# Altium footprint library con-weidmueller-sl35.PCBLIB: 184 footprints (part 5 of 12)
Each footprint in its own frame and in the unit in brackets; x right, y up, seen from the top. Pads: shape width x height; smd on the part's side, far side on the other; paste and mask are expansions set on the pad; w line width, h text height; cw(c..) or ccw(c..) is an arc to the next point about the centre after c.
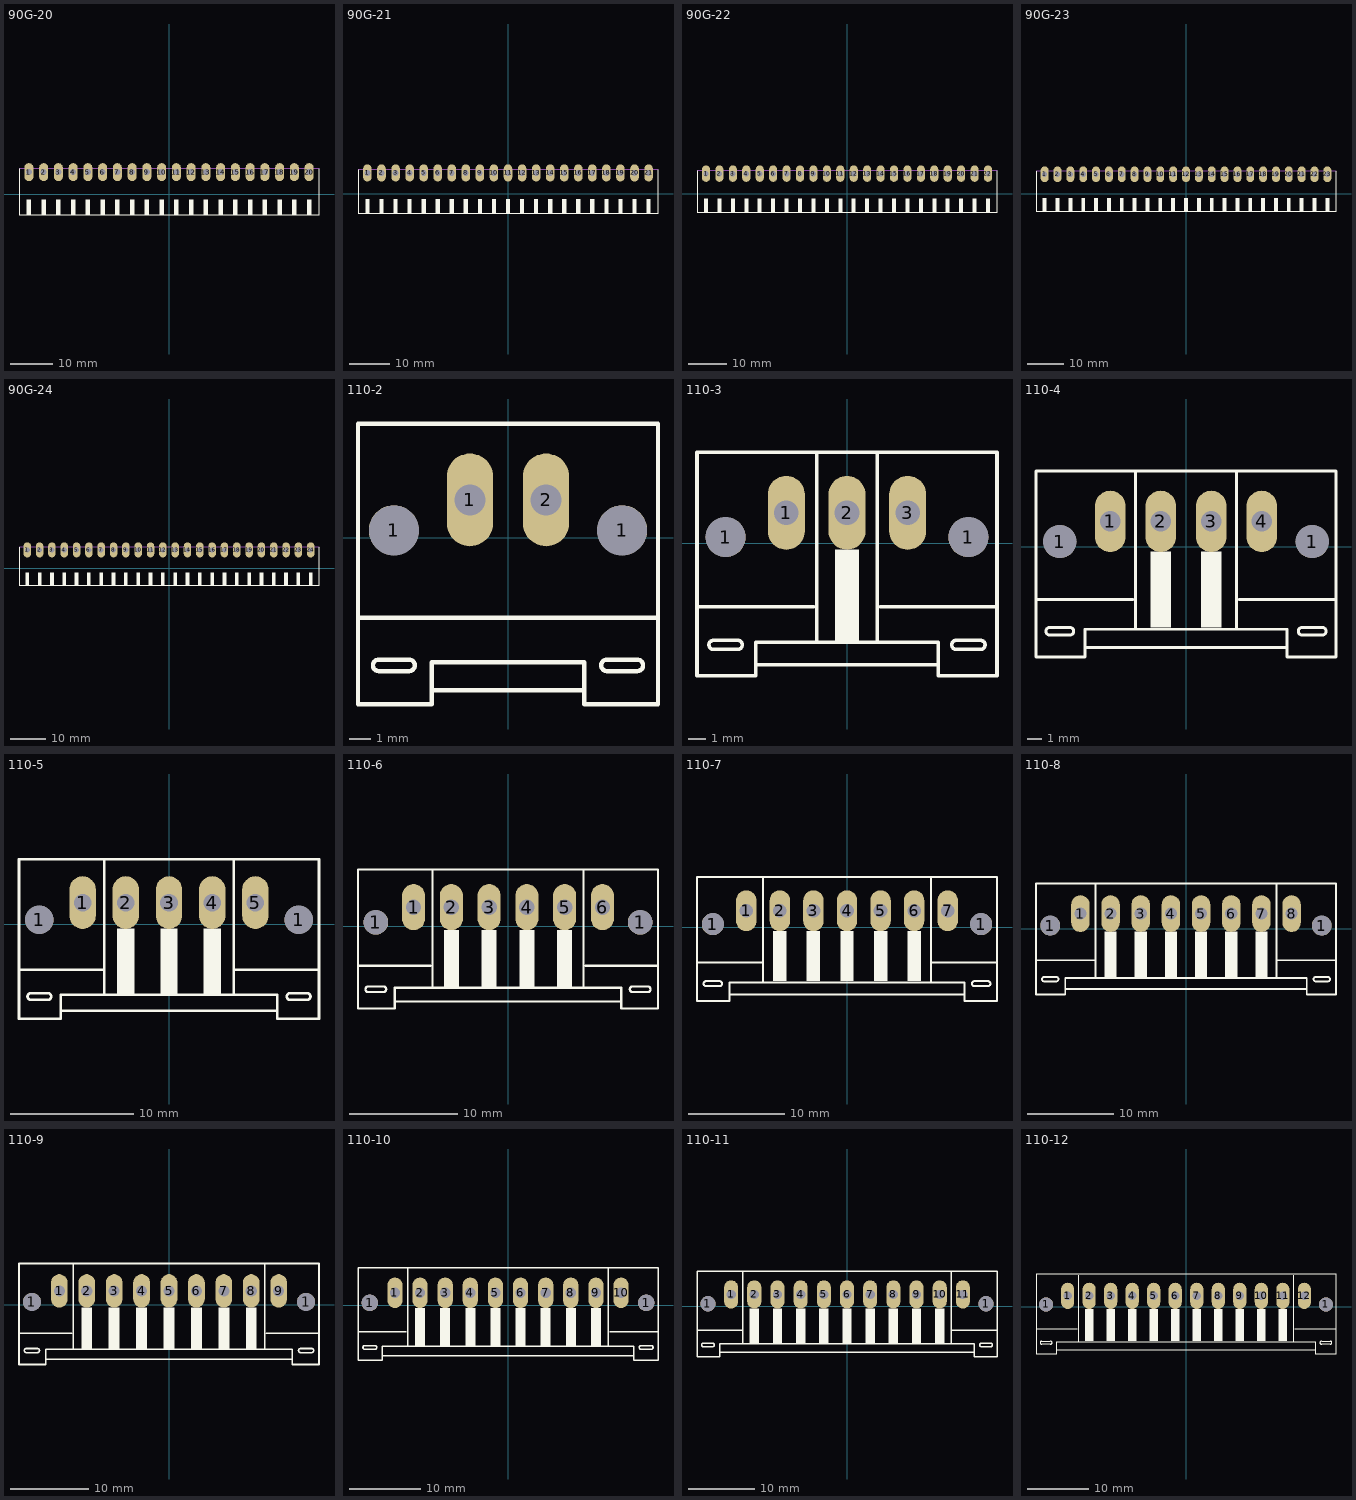
[diagram p4: the footprints below, top view; thin cyan lines are the x and y axes]

## 90G-20 [mil]
pads (20):
  oval 84x168 hole 56: 1(-1309.06,206.69) 2(-1171.26,206.69) 3(-1033.46,206.69) 4(-895.67,206.69) 5(-757.87,206.69) 6(-620.08,206.69) 7(-482.28,206.69) 8(-344.49,206.69) 9(-206.69,206.69) 10(-68.9,206.69) 11(68.9,206.69) 12(206.69,206.69) 13(344.49,206.69) 14(482.28,206.69) 15(620.08,206.69) 16(757.87,206.69) 17(895.67,206.69) 18(1033.46,206.69) 19(1171.26,206.69) 20(1309.06,206.69)
Top Overlay:
  rectangle: -1329.72,-192.91 -1288.39,-48.23
  rectangle: -1191.93,-192.91 -1150.59,-48.23
  rectangle: -1054.13,-192.91 -1012.8,-48.23
  rectangle: -916.34,-192.91 -875,-48.23
  rectangle: -778.54,-192.91 -737.2,-48.23
  rectangle: -640.75,-192.91 -599.41,-48.23
  rectangle: -502.95,-192.91 -461.61,-48.23
  rectangle: -365.16,-192.91 -323.82,-48.23
  rectangle: -227.36,-192.91 -186.02,-48.23
  rectangle: -89.57,-192.91 -48.23,-48.23
  rectangle: 48.23,-192.91 89.57,-48.23
  rectangle: 186.02,-192.91 227.36,-48.23
  rectangle: 323.82,-192.91 365.16,-48.23
  rectangle: 461.61,-192.91 502.95,-48.23
  rectangle: 599.41,-192.91 640.75,-48.23
  rectangle: 737.2,-192.91 778.54,-48.23
  rectangle: 875,-192.91 916.34,-48.23
  rectangle: 1012.8,-192.91 1054.13,-48.23
  rectangle: 1150.59,-192.91 1191.93,-48.23
  rectangle: 1288.39,-192.91 1329.72,-48.23
  lines w8: -1401.57,238.19 -1401.57,-190.94 1401.57,-190.94 1401.57,238.19
Mechanical 16:
  lines w8: -1401.57,238.19 1401.57,238.19

## 90G-21 [mil]
pads (21):
  oval 84x168 hole 56: 1(-1377.95,206.69) 2(-1240.16,206.69) 3(-1102.36,206.69) 4(-964.57,206.69) 5(-826.77,206.69) 6(-688.98,206.69) 7(-551.18,206.69) 8(-413.39,206.69) 9(-275.59,206.69) 10(-137.8,206.69) 11(0,206.69) 12(137.8,206.69) 13(275.59,206.69) 14(413.39,206.69) 15(551.18,206.69) 16(688.98,206.69) 17(826.77,206.69) 18(964.57,206.69) 19(1102.36,206.69) 20(1240.16,206.69) 21(1377.95,206.69)
Top Overlay:
  rectangle: -1398.62,-192.91 -1357.28,-48.23
  rectangle: -1260.83,-192.91 -1219.49,-48.23
  rectangle: -1123.03,-192.91 -1081.69,-48.23
  rectangle: -985.24,-192.91 -943.9,-48.23
  rectangle: -847.44,-192.91 -806.1,-48.23
  rectangle: -709.65,-192.91 -668.31,-48.23
  rectangle: -571.85,-192.91 -530.51,-48.23
  rectangle: -434.06,-192.91 -392.72,-48.23
  rectangle: -296.26,-192.91 -254.92,-48.23
  rectangle: -158.46,-192.91 -117.13,-48.23
  rectangle: -20.67,-192.91 20.67,-48.23
  rectangle: 117.13,-192.91 158.46,-48.23
  rectangle: 254.92,-192.91 296.26,-48.23
  rectangle: 392.72,-192.91 434.06,-48.23
  rectangle: 530.51,-192.91 571.85,-48.23
  rectangle: 668.31,-192.91 709.65,-48.23
  rectangle: 806.1,-192.91 847.44,-48.23
  rectangle: 943.9,-192.91 985.24,-48.23
  rectangle: 1081.69,-192.91 1123.03,-48.23
  rectangle: 1219.49,-192.91 1260.83,-48.23
  rectangle: 1357.28,-192.91 1398.62,-48.23
  lines w8: -1470.47,238.19 -1470.47,-190.94 1470.47,-190.94 1470.47,238.19
Mechanical 16:
  lines w8: -1470.47,238.19 1470.47,238.19

## 90G-22 [mil]
pads (22):
  oval 84x168 hole 56: 1(-1446.85,206.69) 2(-1309.06,206.69) 3(-1171.26,206.69) 4(-1033.46,206.69) 5(-895.67,206.69) 6(-757.87,206.69) 7(-620.08,206.69) 8(-482.28,206.69) 9(-344.49,206.69) 10(-206.69,206.69) 11(-68.9,206.69) 12(68.9,206.69) 13(206.69,206.69) 14(344.49,206.69) 15(482.28,206.69) 16(620.08,206.69) 17(757.87,206.69) 18(895.67,206.69) 19(1033.46,206.69) 20(1171.26,206.69) 21(1309.06,206.69) 22(1446.85,206.69)
Top Overlay:
  rectangle: -1467.52,-192.91 -1426.18,-48.23
  rectangle: -1329.72,-192.91 -1288.39,-48.23
  rectangle: -1191.93,-192.91 -1150.59,-48.23
  rectangle: -1054.13,-192.91 -1012.8,-48.23
  rectangle: -916.34,-192.91 -875,-48.23
  rectangle: -778.54,-192.91 -737.2,-48.23
  rectangle: -640.75,-192.91 -599.41,-48.23
  rectangle: -502.95,-192.91 -461.61,-48.23
  rectangle: -365.16,-192.91 -323.82,-48.23
  rectangle: -227.36,-192.91 -186.02,-48.23
  rectangle: -89.57,-192.91 -48.23,-48.23
  rectangle: 48.23,-192.91 89.57,-48.23
  rectangle: 186.02,-192.91 227.36,-48.23
  rectangle: 323.82,-192.91 365.16,-48.23
  rectangle: 461.61,-192.91 502.95,-48.23
  rectangle: 599.41,-192.91 640.75,-48.23
  rectangle: 737.2,-192.91 778.54,-48.23
  rectangle: 875,-192.91 916.34,-48.23
  rectangle: 1012.8,-192.91 1054.13,-48.23
  rectangle: 1150.59,-192.91 1191.93,-48.23
  rectangle: 1288.39,-192.91 1329.72,-48.23
  rectangle: 1426.18,-192.91 1467.52,-48.23
  lines w8: -1539.37,238.19 -1539.37,-190.94 1539.37,-190.94 1539.37,238.19
Mechanical 16:
  lines w8: -1539.37,238.19 1539.37,238.19

## 90G-23 [mil]
pads (23):
  oval 84x168 hole 56: 1(-1515.75,206.69) 2(-1377.95,206.69) 3(-1240.16,206.69) 4(-1102.36,206.69) 5(-964.57,206.69) 6(-826.77,206.69) 7(-688.98,206.69) 8(-551.18,206.69) 9(-413.39,206.69) 10(-275.59,206.69) 11(-137.8,206.69) 12(0,206.69) 13(137.8,206.69) 14(275.59,206.69) 15(413.39,206.69) 16(551.18,206.69) 17(688.98,206.69) 18(826.77,206.69) 19(964.57,206.69) 20(1102.36,206.69) 21(1240.16,206.69) 22(1377.95,206.69) 23(1515.75,206.69)
Top Overlay:
  rectangle: -1536.42,-192.91 -1495.08,-48.23
  rectangle: -1398.62,-192.91 -1357.28,-48.23
  rectangle: -1260.83,-192.91 -1219.49,-48.23
  rectangle: -1123.03,-192.91 -1081.69,-48.23
  rectangle: -985.24,-192.91 -943.9,-48.23
  rectangle: -847.44,-192.91 -806.1,-48.23
  rectangle: -709.65,-192.91 -668.31,-48.23
  rectangle: -571.85,-192.91 -530.51,-48.23
  rectangle: -434.06,-192.91 -392.72,-48.23
  rectangle: -296.26,-192.91 -254.92,-48.23
  rectangle: -158.46,-192.91 -117.13,-48.23
  rectangle: -20.67,-192.91 20.67,-48.23
  rectangle: 117.13,-192.91 158.46,-48.23
  rectangle: 254.92,-192.91 296.26,-48.23
  rectangle: 392.72,-192.91 434.06,-48.23
  rectangle: 530.51,-192.91 571.85,-48.23
  rectangle: 668.31,-192.91 709.65,-48.23
  rectangle: 806.1,-192.91 847.44,-48.23
  rectangle: 943.9,-192.91 985.24,-48.23
  rectangle: 1081.69,-192.91 1123.03,-48.23
  rectangle: 1219.49,-192.91 1260.83,-48.23
  rectangle: 1357.28,-192.91 1398.62,-48.23
  rectangle: 1495.08,-192.91 1536.42,-48.23
  lines w8: -1608.27,238.19 -1608.27,-190.94 1608.27,-190.94 1608.27,238.19
Mechanical 16:
  lines w8: -1608.27,238.19 1608.27,238.19

## 90G-24 [mil]
pads (24):
  oval 84x168 hole 56: 1(-1584.65,206.69) 2(-1446.85,206.69) 3(-1309.06,206.69) 4(-1171.26,206.69) 5(-1033.46,206.69) 6(-895.67,206.69) 7(-757.87,206.69) 8(-620.08,206.69) 9(-482.28,206.69) 10(-344.49,206.69) 11(-206.69,206.69) 12(-68.9,206.69) 13(68.9,206.69) 14(206.69,206.69) 15(344.49,206.69) 16(482.28,206.69) 17(620.08,206.69) 18(757.87,206.69) 19(895.67,206.69) 20(1033.46,206.69) 21(1171.26,206.69) 22(1309.06,206.69) 23(1446.85,206.69) 24(1584.65,206.69)
Top Overlay:
  rectangle: -1605.31,-192.91 -1563.98,-48.23
  rectangle: -1467.52,-192.91 -1426.18,-48.23
  rectangle: -1329.72,-192.91 -1288.39,-48.23
  rectangle: -1191.93,-192.91 -1150.59,-48.23
  rectangle: -1054.13,-192.91 -1012.8,-48.23
  rectangle: -916.34,-192.91 -875,-48.23
  rectangle: -778.54,-192.91 -737.2,-48.23
  rectangle: -640.75,-192.91 -599.41,-48.23
  rectangle: -502.95,-192.91 -461.61,-48.23
  rectangle: -365.16,-192.91 -323.82,-48.23
  rectangle: -227.36,-192.91 -186.02,-48.23
  rectangle: -89.57,-192.91 -48.23,-48.23
  rectangle: 48.23,-192.91 89.57,-48.23
  rectangle: 186.02,-192.91 227.36,-48.23
  rectangle: 323.82,-192.91 365.16,-48.23
  rectangle: 461.61,-192.91 502.95,-48.23
  rectangle: 599.41,-192.91 640.75,-48.23
  rectangle: 737.2,-192.91 778.54,-48.23
  rectangle: 875,-192.91 916.34,-48.23
  rectangle: 1012.8,-192.91 1054.13,-48.23
  rectangle: 1150.59,-192.91 1191.93,-48.23
  rectangle: 1288.39,-192.91 1329.72,-48.23
  rectangle: 1426.18,-192.91 1467.52,-48.23
  rectangle: 1563.98,-192.91 1605.31,-48.23
  lines w8: -1677.17,238.19 -1677.17,-190.94 1677.17,-190.94 1677.17,238.19
Mechanical 16:
  lines w8: -1677.17,238.19 1677.17,238.19

## 110-2 [mil]
pads (4):
  round 90.55 hole 90.55: 1(-206.69,13.78) 1(206.69,13.78)
  oval 84x168 hole 56: 1(-68.9,68.9) 2(68.9,68.9)
Top Overlay:
  lines w8: -268.7,-144.69 268.7,-144.69 ; -137.8,-275.59 -137.8,-301.18 -271.65,-301.18 -271.65,206.69 271.65,206.69 271.65,-301.18 137.8,-301.18 137.8,-275.59 ; -137.8,-275.59 137.8,-275.59 ; -137.8,-275.59 -137.8,-225.39 137.8,-225.39 137.8,-275.59 ; -234.25,-241.14 cw(c-234.25,-230.81) -234.25,-220.47 -179.13,-220.47 cw(c-179.13,-230.81) -179.13,-241.14 -234.25,-241.14 ; 179.13,-241.14 cw(c179.13,-230.81) 179.13,-220.47 234.25,-220.47 cw(c234.25,-230.81) 234.25,-241.14 179.13,-241.14

## 110-3 [mil]
pads (5):
  round 90.55 hole 90.55: 1(-275.59,13.78) 1(275.59,13.78)
  oval 84x168 hole 56: 1(-137.8,68.9) 2(0,68.9) 3(137.8,68.9)
Top Overlay:
  rectangle: -27.56,-220.47 27.56,-13.78
  lines w8: -337.6,-144.69 -75.79,-144.69 ; -68.9,-220.47 -68.9,201.77 ; 68.9,-220.47 68.9,201.77 ; 75.79,-144.69 337.6,-144.69 ; -206.69,-275.59 -206.69,-301.18 -340.55,-301.18 -340.55,206.69 340.55,206.69 340.55,-301.18 206.69,-301.18 206.69,-275.59 ; -206.69,-275.59 206.69,-275.59 ; -206.69,-275.59 -206.69,-225.39 206.69,-225.39 206.69,-275.59 ; -303.15,-241.14 cw(c-303.15,-230.81) -303.15,-220.47 -248.03,-220.47 cw(c-248.03,-230.81) -248.03,-241.14 -303.15,-241.14 ; 248.03,-241.14 cw(c248.03,-230.81) 248.03,-220.47 303.15,-220.47 cw(c303.15,-230.81) 303.15,-241.14 248.03,-241.14

## 110-4 [mil]
pads (6):
  round 90.55 hole 90.55: 1(-344.49,13.78) 1(344.49,13.78)
  oval 84x168 hole 56: 1(-206.69,68.9) 2(-68.9,68.9) 3(68.9,68.9) 4(206.69,68.9)
Top Overlay:
  rectangle: -96.46,-220.47 -41.34,-13.78
  rectangle: 41.34,-220.47 96.46,-13.78
  lines w8: -406.5,-144.69 -144.69,-144.69 ; -137.8,-220.47 -137.8,201.77 ; 137.8,-220.47 137.8,201.77 ; 144.69,-144.69 406.5,-144.69 ; -275.59,-275.59 -275.59,-301.18 -409.45,-301.18 -409.45,206.69 409.45,206.69 409.45,-301.18 275.59,-301.18 275.59,-275.59 ; -275.59,-275.59 275.59,-275.59 ; -275.59,-275.59 -275.59,-225.39 275.59,-225.39 275.59,-275.59 ; -372.05,-241.14 cw(c-372.05,-230.81) -372.05,-220.47 -316.93,-220.47 cw(c-316.93,-230.81) -316.93,-241.14 -372.05,-241.14 ; 316.93,-241.14 cw(c316.93,-230.81) 316.93,-220.47 372.05,-220.47 cw(c372.05,-230.81) 372.05,-241.14 316.93,-241.14

## 110-5 [mil]
pads (7):
  round 90.55 hole 90.55: 1(-413.39,13.78) 1(413.39,13.78)
  oval 84x168 hole 56: 1(-275.59,68.9) 2(-137.8,68.9) 3(0,68.9) 4(137.8,68.9) 5(275.59,68.9)
Top Overlay:
  rectangle: -165.35,-220.47 -110.24,-13.78
  rectangle: -27.56,-220.47 27.56,-13.78
  rectangle: 110.24,-220.47 165.35,-13.78
  lines w8: -475.39,-144.69 -213.58,-144.69 ; -206.69,-220.47 -206.69,201.77 ; 206.69,-220.47 206.69,201.77 ; 213.58,-144.69 475.39,-144.69 ; -344.49,-275.59 -344.49,-301.18 -478.35,-301.18 -478.35,206.69 478.35,206.69 478.35,-301.18 344.49,-301.18 344.49,-275.59 ; -344.49,-275.59 344.49,-275.59 ; -344.49,-275.59 -344.49,-225.39 344.49,-225.39 344.49,-275.59 ; -440.94,-241.14 cw(c-440.94,-230.81) -440.94,-220.47 -385.83,-220.47 cw(c-385.83,-230.81) -385.83,-241.14 -440.94,-241.14 ; 385.83,-241.14 cw(c385.83,-230.81) 385.83,-220.47 440.94,-220.47 cw(c440.94,-230.81) 440.94,-241.14 385.83,-241.14

## 110-6 [mil]
pads (8):
  round 90.55 hole 90.55: 1(-482.28,13.78) 1(482.28,13.78)
  oval 84x168 hole 56: 1(-344.49,68.9) 2(-206.69,68.9) 3(-68.9,68.9) 4(68.9,68.9) 5(206.69,68.9) 6(344.49,68.9)
Top Overlay:
  rectangle: -234.25,-220.47 -179.13,-13.78
  rectangle: -96.46,-220.47 -41.34,-13.78
  rectangle: 41.34,-220.47 96.46,-13.78
  rectangle: 179.13,-220.47 234.25,-13.78
  lines w8: -544.29,-144.69 -282.48,-144.69 ; -275.59,-220.47 -275.59,201.77 ; 275.59,-220.47 275.59,201.77 ; 282.48,-144.69 544.29,-144.69 ; -413.39,-275.59 -413.39,-301.18 -547.24,-301.18 -547.24,206.69 547.24,206.69 547.24,-301.18 413.39,-301.18 413.39,-275.59 ; -413.39,-275.59 413.39,-275.59 ; -413.39,-275.59 -413.39,-225.39 413.39,-225.39 413.39,-275.59 ; -509.84,-241.14 cw(c-509.84,-230.81) -509.84,-220.47 -454.72,-220.47 cw(c-454.72,-230.81) -454.72,-241.14 -509.84,-241.14 ; 454.72,-241.14 cw(c454.72,-230.81) 454.72,-220.47 509.84,-220.47 cw(c509.84,-230.81) 509.84,-241.14 454.72,-241.14

## 110-7 [mil]
pads (9):
  round 90.55 hole 90.55: 1(-551.18,13.78) 1(551.18,13.78)
  oval 84x168 hole 56: 1(-413.39,68.9) 2(-275.59,68.9) 3(-137.8,68.9) 4(0,68.9) 5(137.8,68.9) 6(275.59,68.9) 7(413.39,68.9)
Top Overlay:
  rectangle: -303.15,-220.47 -248.03,-13.78
  rectangle: -165.35,-220.47 -110.24,-13.78
  rectangle: -27.56,-220.47 27.56,-13.78
  rectangle: 110.24,-220.47 165.35,-13.78
  rectangle: 248.03,-220.47 303.15,-13.78
  lines w8: -613.19,-144.69 -351.38,-144.69 ; -344.49,-220.47 -344.49,201.77 ; 344.49,-220.47 344.49,201.77 ; 351.38,-144.69 613.19,-144.69 ; -482.28,-275.59 -482.28,-301.18 -616.14,-301.18 -616.14,206.69 616.14,206.69 616.14,-301.18 482.28,-301.18 482.28,-275.59 ; -482.28,-275.59 482.28,-275.59 ; -482.28,-275.59 -482.28,-225.39 482.28,-225.39 482.28,-275.59 ; -578.74,-241.14 cw(c-578.74,-230.81) -578.74,-220.47 -523.62,-220.47 cw(c-523.62,-230.81) -523.62,-241.14 -578.74,-241.14 ; 523.62,-241.14 cw(c523.62,-230.81) 523.62,-220.47 578.74,-220.47 cw(c578.74,-230.81) 578.74,-241.14 523.62,-241.14

## 110-8 [mil]
pads (10):
  round 90.55 hole 90.55: 1(-620.08,13.78) 1(620.08,13.78)
  oval 84x168 hole 56: 1(-482.28,68.9) 2(-344.49,68.9) 3(-206.69,68.9) 4(-68.9,68.9) 5(68.9,68.9) 6(206.69,68.9) 7(344.49,68.9) 8(482.28,68.9)
Top Overlay:
  rectangle: -372.05,-220.47 -316.93,-13.78
  rectangle: -234.25,-220.47 -179.13,-13.78
  rectangle: -96.46,-220.47 -41.34,-13.78
  rectangle: 41.34,-220.47 96.46,-13.78
  rectangle: 179.13,-220.47 234.25,-13.78
  rectangle: 316.93,-220.47 372.05,-13.78
  lines w8: -682.09,-144.69 -420.28,-144.69 ; -413.39,-220.47 -413.39,201.77 ; 413.39,-220.47 413.39,201.77 ; 420.28,-144.69 682.09,-144.69 ; -551.18,-275.59 -551.18,-301.18 -685.04,-301.18 -685.04,206.69 685.04,206.69 685.04,-301.18 551.18,-301.18 551.18,-275.59 ; -551.18,-275.59 551.18,-275.59 ; -551.18,-275.59 -551.18,-225.39 551.18,-225.39 551.18,-275.59 ; -647.64,-241.14 cw(c-647.64,-230.81) -647.64,-220.47 -592.52,-220.47 cw(c-592.52,-230.81) -592.52,-241.14 -647.64,-241.14 ; 592.52,-241.14 cw(c592.52,-230.81) 592.52,-220.47 647.64,-220.47 cw(c647.64,-230.81) 647.64,-241.14 592.52,-241.14

## 110-9 [mil]
pads (11):
  round 90.55 hole 90.55: 1(-688.98,13.78) 1(688.98,13.78)
  oval 84x168 hole 56: 1(-551.18,68.9) 2(-413.39,68.9) 3(-275.59,68.9) 4(-137.8,68.9) 5(0,68.9) 6(137.8,68.9) 7(275.59,68.9) 8(413.39,68.9) 9(551.18,68.9)
Top Overlay:
  rectangle: -440.94,-220.47 -385.83,-13.78
  rectangle: -303.15,-220.47 -248.03,-13.78
  rectangle: -165.35,-220.47 -110.24,-13.78
  rectangle: -27.56,-220.47 27.56,-13.78
  rectangle: 110.24,-220.47 165.35,-13.78
  rectangle: 248.03,-220.47 303.15,-13.78
  rectangle: 385.83,-220.47 440.94,-13.78
  lines w8: -750.98,-144.69 -489.17,-144.69 ; -482.28,-220.47 -482.28,201.77 ; 482.28,-220.47 482.28,201.77 ; 489.17,-144.69 750.98,-144.69 ; -620.08,-275.59 -620.08,-301.18 -753.94,-301.18 -753.94,206.69 753.94,206.69 753.94,-301.18 620.08,-301.18 620.08,-275.59 ; -620.08,-275.59 620.08,-275.59 ; -620.08,-275.59 -620.08,-225.39 620.08,-225.39 620.08,-275.59 ; -716.54,-241.14 cw(c-716.54,-230.81) -716.54,-220.47 -661.42,-220.47 cw(c-661.42,-230.81) -661.42,-241.14 -716.54,-241.14 ; 661.42,-241.14 cw(c661.42,-230.81) 661.42,-220.47 716.54,-220.47 cw(c716.54,-230.81) 716.54,-241.14 661.42,-241.14

## 110-10 [mil]
pads (12):
  round 90.55 hole 90.55: 1(-757.87,13.78) 1(757.87,13.78)
  oval 84x168 hole 56: 1(-620.08,68.9) 2(-482.28,68.9) 3(-344.49,68.9) 4(-206.69,68.9) 5(-68.9,68.9) 6(68.9,68.9) 7(206.69,68.9) 8(344.49,68.9) 9(482.28,68.9) 10(620.08,68.9)
Top Overlay:
  rectangle: -509.84,-220.47 -454.72,-13.78
  rectangle: -372.05,-220.47 -316.93,-13.78
  rectangle: -234.25,-220.47 -179.13,-13.78
  rectangle: -96.46,-220.47 -41.34,-13.78
  rectangle: 41.34,-220.47 96.46,-13.78
  rectangle: 179.13,-220.47 234.25,-13.78
  rectangle: 316.93,-220.47 372.05,-13.78
  rectangle: 454.72,-220.47 509.84,-13.78
  lines w8: -819.88,-144.69 -558.07,-144.69 ; -551.18,-220.47 -551.18,201.77 ; 551.18,-220.47 551.18,201.77 ; 558.07,-144.69 819.88,-144.69 ; -688.98,-275.59 -688.98,-301.18 -822.83,-301.18 -822.83,206.69 822.83,206.69 822.83,-301.18 688.98,-301.18 688.98,-275.59 ; -688.98,-275.59 688.98,-275.59 ; -688.98,-275.59 -688.98,-225.39 688.98,-225.39 688.98,-275.59 ; -785.43,-241.14 cw(c-785.43,-230.81) -785.43,-220.47 -730.32,-220.47 cw(c-730.32,-230.81) -730.32,-241.14 -785.43,-241.14 ; 730.32,-241.14 cw(c730.32,-230.81) 730.32,-220.47 785.43,-220.47 cw(c785.43,-230.81) 785.43,-241.14 730.32,-241.14

## 110-11 [mil]
pads (13):
  round 90.55 hole 90.55: 1(-826.77,13.78) 1(826.77,13.78)
  oval 84x168 hole 56: 1(-688.98,68.9) 2(-551.18,68.9) 3(-413.39,68.9) 4(-275.59,68.9) 5(-137.8,68.9) 6(0,68.9) 7(137.8,68.9) 8(275.59,68.9) 9(413.39,68.9) 10(551.18,68.9) 11(688.98,68.9)
Top Overlay:
  rectangle: -578.74,-220.47 -523.62,-13.78
  rectangle: -440.94,-220.47 -385.83,-13.78
  rectangle: -303.15,-220.47 -248.03,-13.78
  rectangle: -165.35,-220.47 -110.24,-13.78
  rectangle: -27.56,-220.47 27.56,-13.78
  rectangle: 110.24,-220.47 165.35,-13.78
  rectangle: 248.03,-220.47 303.15,-13.78
  rectangle: 385.83,-220.47 440.94,-13.78
  rectangle: 523.62,-220.47 578.74,-13.78
  lines w8: -888.78,-144.69 -626.97,-144.69 ; -620.08,-220.47 -620.08,201.77 ; 620.08,-220.47 620.08,201.77 ; 626.97,-144.69 888.78,-144.69 ; -757.87,-275.59 -757.87,-301.18 -891.73,-301.18 -891.73,206.69 891.73,206.69 891.73,-301.18 757.87,-301.18 757.87,-275.59 ; -757.87,-275.59 757.87,-275.59 ; -757.87,-275.59 -757.87,-225.39 757.87,-225.39 757.87,-275.59 ; -854.33,-241.14 cw(c-854.33,-230.81) -854.33,-220.47 -799.21,-220.47 cw(c-799.21,-230.81) -799.21,-241.14 -854.33,-241.14 ; 799.21,-241.14 cw(c799.21,-230.81) 799.21,-220.47 854.33,-220.47 cw(c854.33,-230.81) 854.33,-241.14 799.21,-241.14

## 110-12 [mil]
pads (14):
  round 90.55 hole 90.55: 1(-895.67,13.78) 1(895.67,13.78)
  oval 84x168 hole 56: 1(-757.87,68.9) 2(-620.08,68.9) 3(-482.28,68.9) 4(-344.49,68.9) 5(-206.69,68.9) 6(-68.9,68.9) 7(68.9,68.9) 8(206.69,68.9) 9(344.49,68.9) 10(482.28,68.9) 11(620.08,68.9) 12(757.87,68.9)
Top Overlay:
  rectangle: -647.64,-220.47 -592.52,-13.78
  rectangle: -509.84,-220.47 -454.72,-13.78
  rectangle: -372.05,-220.47 -316.93,-13.78
  rectangle: -234.25,-220.47 -179.13,-13.78
  rectangle: -96.46,-220.47 -41.34,-13.78
  rectangle: 41.34,-220.47 96.46,-13.78
  rectangle: 179.13,-220.47 234.25,-13.78
  rectangle: 316.93,-220.47 372.05,-13.78
  rectangle: 454.72,-220.47 509.84,-13.78
  rectangle: 592.52,-220.47 647.64,-13.78
  lines w8: -957.68,-144.69 -695.87,-144.69 ; -688.98,-220.47 -688.98,201.77 ; 688.98,-220.47 688.98,201.77 ; 695.87,-144.69 957.68,-144.69 ; -826.77,-275.59 -826.77,-301.18 -960.63,-301.18 -960.63,206.69 960.63,206.69 960.63,-301.18 826.77,-301.18 826.77,-275.59 ; -826.77,-275.59 826.77,-275.59 ; -826.77,-275.59 -826.77,-225.39 826.77,-225.39 826.77,-275.59 ; -923.23,-241.14 cw(c-923.23,-230.81) -923.23,-220.47 -868.11,-220.47 cw(c-868.11,-230.81) -868.11,-241.14 -923.23,-241.14 ; 868.11,-241.14 cw(c868.11,-230.81) 868.11,-220.47 923.23,-220.47 cw(c923.23,-230.81) 923.23,-241.14 868.11,-241.14